# Altium footprint library PASSIVE_THD.PCBLIB: 248 footprints (part 13 of 16)
Each footprint in its own frame and in the unit in brackets; x right, y up, seen from the top. Pads: shape width x height; smd on the part's side, far side on the other; paste and mask are expansions set on the pad; w line width, h text height; cw(c..) or ccw(c..) is an arc to the next point about the centre after c.
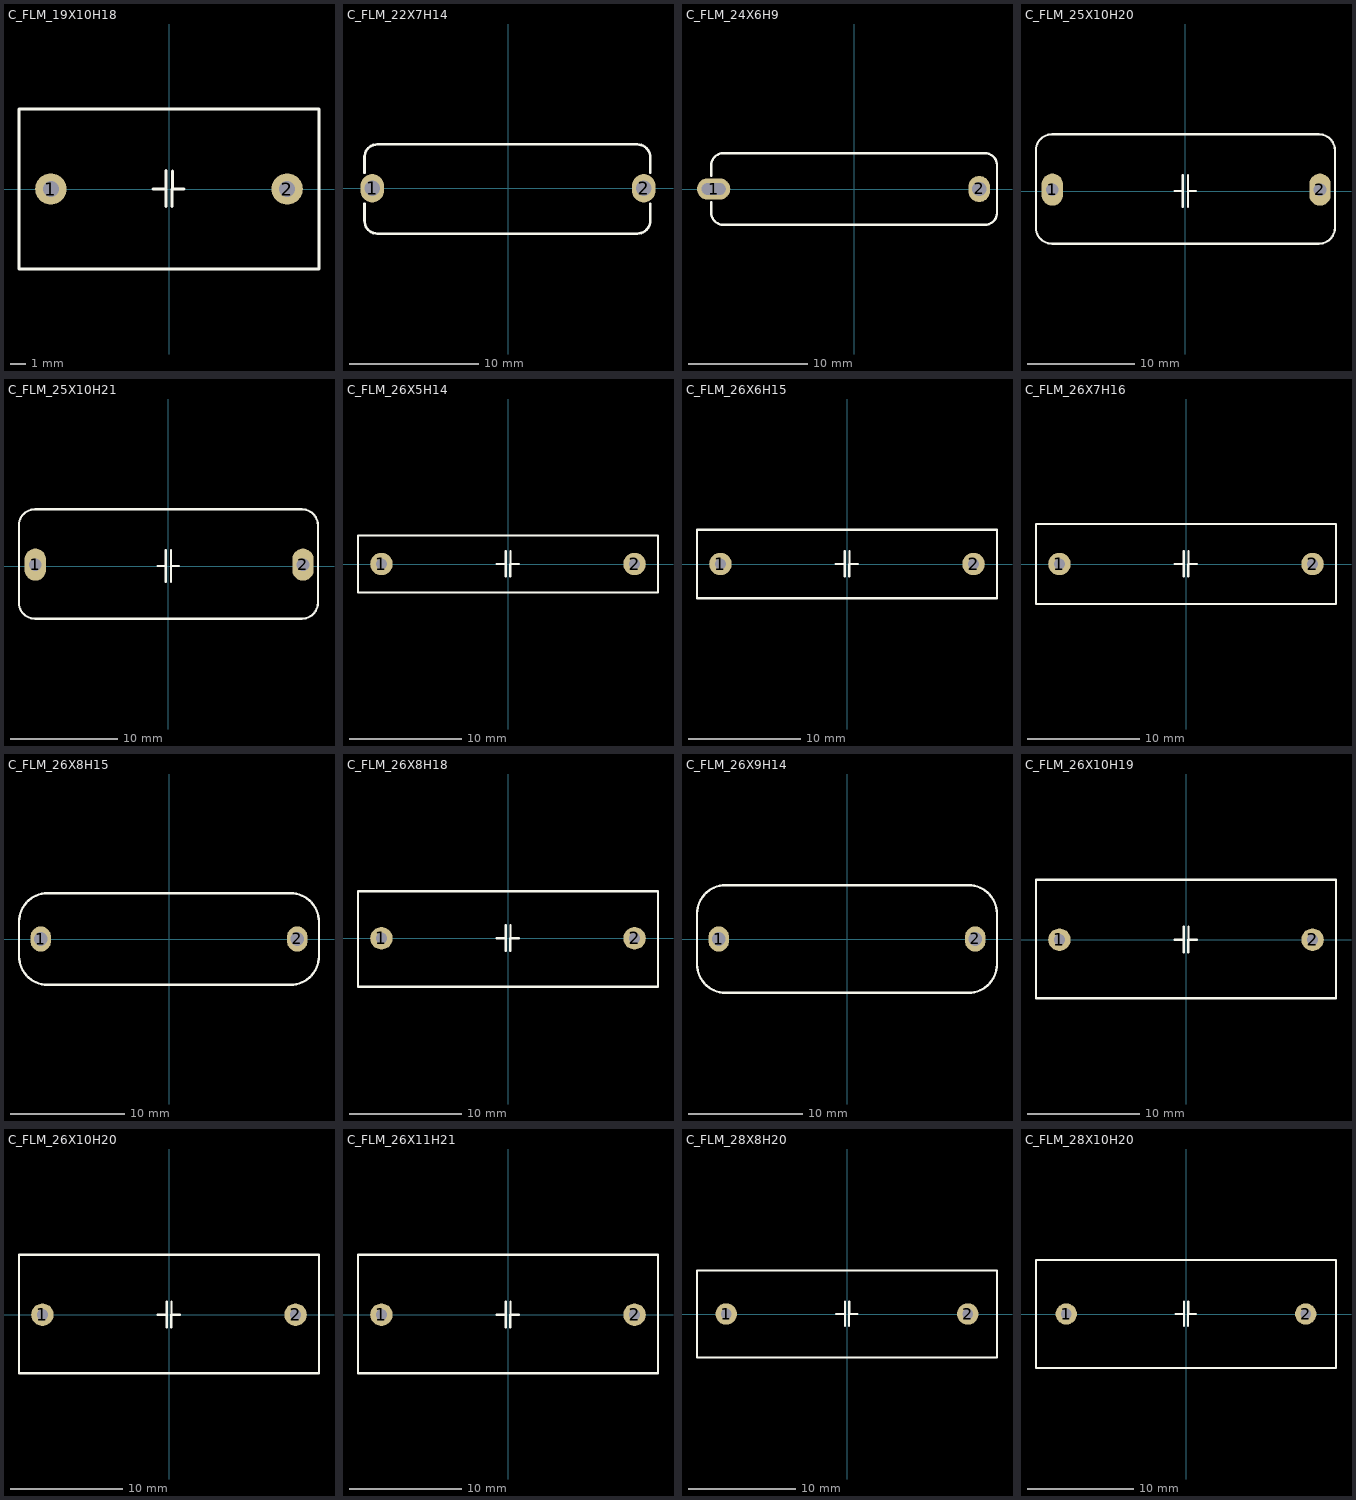
[diagram p12: the footprints below, top view; thin cyan lines are the x and y axes]

## C_FLM_19X10H18 [mm] "Capacitor, THT, Metallized Polyester Film 19x10x18 LxTxH"
height 7
pads (2):
  round 2 hole 1: 1(-7.5,0) 2(7.5,0)
TopOverlay:
  lines w0.2: -1,0 -0.2,0 ; -0.2,-1.119 -0.2,1.164 ; 0.2,-1.119 0.212,1.151 ; 0.2,0 0.95,0 ; -9.525,-5.08 -9.525,5.08 9.525,5.08 9.525,-5.08 -9.525,-5.08
3D body "FILM_RED_P1500L1900W1000H1800PD80.step": height 18, standoff -6.2, extent -9.5,-5 9.5,5

## C_FLM_22X7H14 [mm] "CAP, POLYESTER, 33.0X7.0mm pitch: 20.0mm, 0.68uF 400V"
pads (2):
  oval 1.8x2.2 hole 1.2: 1(-10.5,0) 2(10.5,0)
TopOverlay:
  lines w0.2: -11.1,-1.2 -11.1,-2.5 ccw(c-10.1,-2.5) -10.1,-3.5 10,-3.5 ccw(c10,-2.5) 11,-2.5 11,-1.2 ; -11.1,1.2 -11.1,2.5 ; -11.1,2.4 cw(c-10.1,2.4) -10.1,3.4 10,3.4 cw(c10,2.4) 11,2.4 ; 11,1.2 11,2.5
3D body "User Library-ECQE(F) 0_33uf 630Vdc 250Vac.step": height 19, standoff -3, extent -13,-3.9 13,3.9

## C_FLM_24X6H9 [mm] "CAP, POLYESTER, 23.8X5.8mm pitch: 20.0mm, 0.33uF 400V"
pads (2):
  oval 2.8x1.8 hole 1 slot 2 at 0 deg: 1(-11.8,0)
  oval 1.8x2.2 hole 1.2: 2(10.5,0)
TopOverlay:
  lines w0.2: -12,-2.1 -12,-1.1 ; -12,-2 ccw(c-11,-2) -11,-3 11,-3 ccw(c11,-2) 12,-2 12,2.1 ; -12,1.1 -12,2.1 ; -12,2 cw(c-11,2) -11,3 11,3 cw(c11,2) 12,2
3D body "Cap 330n - 400V Poly_2009.STEP": height 10.92, standoff -3, extent -11.888,-2.85 11.862,2.901

## C_FLM_25X10H20 [mm] "Capacitor, THT, Metallized Polyester Film, 25x10x20"
height 20
pads (2):
  oval 2x3 hole 1.2: 1(-12.446,0.127) 2(12.573,0.127)
TopOverlay:
  lines w0.2: -1,0 -0.25,0 ; -0.25,-1.5 -0.25,1.5 ; 0.25,-1.5 0.25,1.5 ; 0.25,0 1,0 ; -13.97,-3.429 ccw(c-12.47,-3.429) -12.47,-4.929 0,-4.929 12.47,-4.929 ccw(c12.47,-3.429) 13.97,-3.429 13.97,3.81 ccw(c12.47,3.81) 12.47,5.31 0,5.31 -12.47,5.31 ccw(c-12.47,3.81) -13.97,3.81 -13.97,-3.429
3D body "Capacitor de Polyester CBB22 25mm.step": height 19, standoff -4, extent -13.584,-4.973 13.716,5.247

## C_FLM_25X10H21 [mm] "Capacitor, THT, Metallized Polyester Film, 25x10x21mm"
height 25
pads (2):
  oval 2x3 hole 1.2: 1(-12.446,0.127) 2(12.573,0.127)
TopOverlay:
  lines w0.2: -1,0 -0.25,0 ; -0.25,-1.5 -0.25,1.5 ; 0.25,-1.5 0.25,1.5 ; 0.25,0 1,0 ; -13.97,-3.429 ccw(c-12.47,-3.429) -12.47,-4.929 0,-4.929 12.47,-4.929 ccw(c12.47,-3.429) 13.97,-3.429 13.97,3.81 ccw(c12.47,3.81) 12.47,5.31 0,5.31 -12.47,5.31 ccw(c-12.47,3.81) -13.97,3.81 -13.97,-3.429
3D body "Capacitor de Polyester CBB 25mm.step": height 23, standoff -4, extent -13.65,-4.953 13.65,5.267

## C_FLM_26X5H14 [mm] "Capacitor, THT, Metallized Polyester Film 26.5x5x14mm LxTxH"
height 7
pads (2):
  round 2 hole 1: 1(-11.25,0) 2(11.25,0)
TopOverlay:
  lines w0.2: -1,0 -0.2,0 ; -0.2,-1.119 -0.2,1.164 ; 0.2,-1.119 0.212,1.151 ; 0.2,0 0.95,0 ; -13.335,-2.54 13.335,-2.54 13.335,2.54 -13.335,2.54 -13.335,-2.54
3D body "FILM_RED_P2250L2650W500H1400PD80.step": height 14, standoff -6.2, extent -13.25,-2.5 13.25,2.5

## C_FLM_26X6H15 [mm] "Capacitor, THT, Metallized Polyester Film 26.5x6x15mm LxTxH"
height 7
pads (2):
  round 2 hole 1: 1(-11.25,0) 2(11.25,0)
TopOverlay:
  lines w0.2: -1,0 -0.2,0 ; -0.2,-1.119 -0.2,1.164 ; 0.2,-1.119 0.212,1.151 ; 0.2,0 0.95,0 ; -13.335,-3.048 -13.335,3.048 13.335,3.048 13.335,-3.048 -13.335,-3.048
3D body "FILM_RED_P2250L2650W600H1500PD80.step": height 15, standoff -6.2, extent -13.25,-3 13.25,3

## C_FLM_26X7H16 [mm] "Capacitor, THT, Metallized Polyester Film with 26.5x7x16.5mm LxTxH"
height 7
pads (2):
  round 2 hole 1: 1(-11.25,0) 2(11.25,0)
TopOverlay:
  lines w0.2: -1,0 -0.2,0 ; -0.2,-1.119 -0.2,1.164 ; 0.2,-1.119 0.212,1.151 ; 0.2,0 0.95,0 ; -13.335,-3.556 -13.335,3.556 13.335,3.556 13.335,-3.556 -13.335,-3.556
3D body "FILM_RED_P2250L2650W700H1650PD80.step": height 16.5, standoff -6.2, extent -13.377,-3.5 13.123,3.5

## C_FLM_26X8H15 [mm] "CAP, POLYESTER, 26.0X7.8mm pitch: 22.5mm, 0.68uF 400V"
pads (2):
  oval 1.8x2.2 hole 1.2: 1(-11.2,0) 2(11.2,0)
TopOverlay:
  lines w0.2: -13.1,-1.5 ccw(c-10.6,-1.5) -10.6,-4 10.6,-4 ccw(c10.6,-1.5) 13.1,-1.5 13.1,1.5 ccw(c10.6,1.5) 10.6,4 -10.6,4 ccw(c-10.6,1.5) -13.1,1.5 -13.1,-1.5
3D body "User Library-ECQE(F) 0_33uf 630Vdc 250Vac.step": height 19, standoff -3, extent -13,-3.9 13,3.9

## C_FLM_26X8H18 [mm] "Capacitor, THT, Metallized Polyester Film with 26.5x8.5x18.5mm LxTxH"
height 7
pads (2):
  round 2 hole 1: 1(-11.25,0) 2(11.25,0)
TopOverlay:
  lines w0.2: -1,0 -0.2,0 ; -0.2,-1.119 -0.2,1.164 ; 0.2,-1.119 0.212,1.151 ; 0.2,0 0.95,0 ; -13.335,-4.318 13.335,-4.318 13.335,4.191 -13.335,4.191 -13.335,-4.318
3D body "FILM_RED_P2250L2650W850H1850PD80.step": height 18.5, standoff -6.2, extent -13.25,-4.25 13.25,4.25

## C_FLM_26X9H14 [mm] "CAP, POLYESTER, 26.0X9.3mm pitch: 22.5mm, 0.68uF 400V"
pads (2):
  oval 1.8x2.2 hole 1.2: 1(-11.2,0) 2(11.2,0)
TopOverlay:
  lines w0.2: -13.1,-2.2 ccw(c-10.6,-2.2) -10.6,-4.7 10.6,-4.7 ccw(c10.6,-2.2) 13.1,-2.2 13.1,2.2 ccw(c10.6,2.2) 10.6,4.7 -10.6,4.7 ccw(c-10.6,2.2) -13.1,2.2 -13.1,-2.2
3D body "SW3dPS-ECQE(F) 0.47uf 630Vdc 250Vac.STEP": height 3, standoff -20.5, extent -13,-4.65 13,4.65

## C_FLM_26X10H19 [mm] "Capacitor, THT, Metallized Polyester Film with 26.5x10.5x19mm LxTxH"
height 7
pads (2):
  round 2 hole 1: 1(-11.25,0) 2(11.25,0)
TopOverlay:
  lines w0.2: -1,0 -0.2,0 ; -0.2,-1.119 -0.2,1.164 ; 0.2,-1.119 0.212,1.151 ; 0.2,0 0.95,0 ; -13.335,-5.207 13.335,-5.207 13.335,5.334 -13.335,5.334 -13.335,-5.207
3D body "FILM_RED_P2250L2650W1050H1900PD80.step": height 19, standoff -6.2, extent -13.25,-5.25 13.25,5.25

## C_FLM_26X10H20 [mm] "Capacitor, THT, Metallized Polyester Film with 26.5x10.5x20.5mm LxTxH"
height 7
pads (2):
  round 2 hole 1: 1(-11.25,0) 2(11.25,0)
TopOverlay:
  lines w0.2: -1,0 -0.2,0 ; -0.2,-1.119 -0.2,1.164 ; 0.2,-1.119 0.212,1.151 ; 0.2,0 0.95,0 ; -13.335,-5.207 13.335,-5.207 13.335,5.334 -13.335,5.334 -13.335,-5.207
3D body "FILM_RED_P2250L2650W1050H2050PD80.step": height 20.5, standoff -6.2, extent -13.25,-5.25 13.25,5.25

## C_FLM_26X11H21 [mm] "Capacitor, THT, Metallized Polyester Film with 26.5x11x21mm LxTxH"
height 7
pads (2):
  round 2 hole 1: 1(-11.25,0) 2(11.25,0)
TopOverlay:
  lines w0.2: -1,0 -0.2,0 ; -0.2,-1.119 -0.2,1.164 ; 0.2,-1.119 0.212,1.151 ; 0.2,0 0.95,0 ; -13.335,-5.207 13.335,-5.207 13.335,5.334 -13.335,5.334 -13.335,-5.207
3D body "FILM_RED_P2250L2650W1100H2100PD80.step": height 21, standoff -6.2, extent -13.25,-5.5 13.25,5.5

## C_FLM_28X8H20 [mm] "Capacitor, THT, Metallized Polyester Film with 28x8x20mm LxTxH"
height 7
pads (2):
  round 2 hole 1: 1(-11.25,0) 2(11.25,0)
TopOverlay:
  lines w0.2: -1,0 -0.2,0 ; -0.2,-1.119 -0.2,1.164 ; 0.2,-1.119 0.212,1.151 ; 0.2,0 0.95,0 ; -13.97,-4.064 13.97,-4.064 13.97,4.064 -13.97,4.064 -13.97,-4.064
3D body "FILM_RED_P2250L2800W800H2000PD80.step": height 20, standoff -6.2, extent -14,-4 14,4

## C_FLM_28X10H20 [mm] "Capacitor, THT, Metallized Polyester Film with 28x10x20mm LxTxH"
height 7
pads (2):
  round 2 hole 1: 1(-11.25,0) 2(11.25,0)
TopOverlay:
  lines w0.2: -1,0 -0.2,0 ; -0.2,-1.119 -0.2,1.164 ; 0.2,-1.119 0.212,1.151 ; 0.2,0 0.95,0 ; -14.097,-5.08 14.097,-5.08 14.097,5.08 -14.097,5.08 -14.097,-5.08
3D body "FILM_RED_P2250L2800W1000H2200PD80.step": height 22, standoff -6.2, extent -14,-5 14,5